# EAGLE library part HDR-1X10 (library connector)
Standard 1x10 .100" HDR -Breakable strip
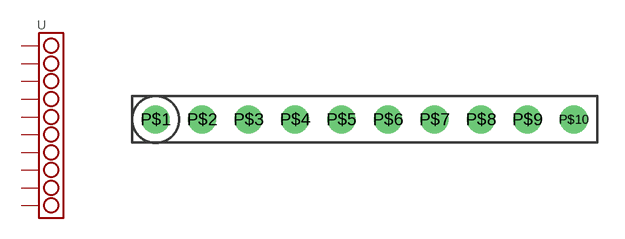
[diagram p12: symbol with the pads of HDR-1X10; footprint HDR-1X10]

Designator prefix -

## HDR-1X10  [HDR-1X10]
P$1  P$1
P$2  P$2
P$3  P$3
P$4  P$4
P$5  P$5
P$6  P$6
P$7  P$7
P$8  P$8
P$9  P$9
P$10  P$10

## Footprint HDR-1X10 (pad centres in mm)
drill 1.016: P$1 -11.43,0; P$2 -8.89,0; P$3 -6.35,0; P$4 -3.81,0; P$5 -1.27,0; P$6 1.27,0; P$7 3.81,0; P$8 6.35,0; P$9 8.89,0; P$10 11.43,0